# Altium footprint library VOT8121_SMD-4.PcbLib: 1 footprints
Each footprint in its own frame and in the unit in brackets; x right, y up, seen from the top. Pads: shape width x height; smd on the part's side, far side on the other; paste and mask are expansions set on the pad; w line width, h text height; cw(c..) or ccw(c..) is an arc to the next point about the centre after c.
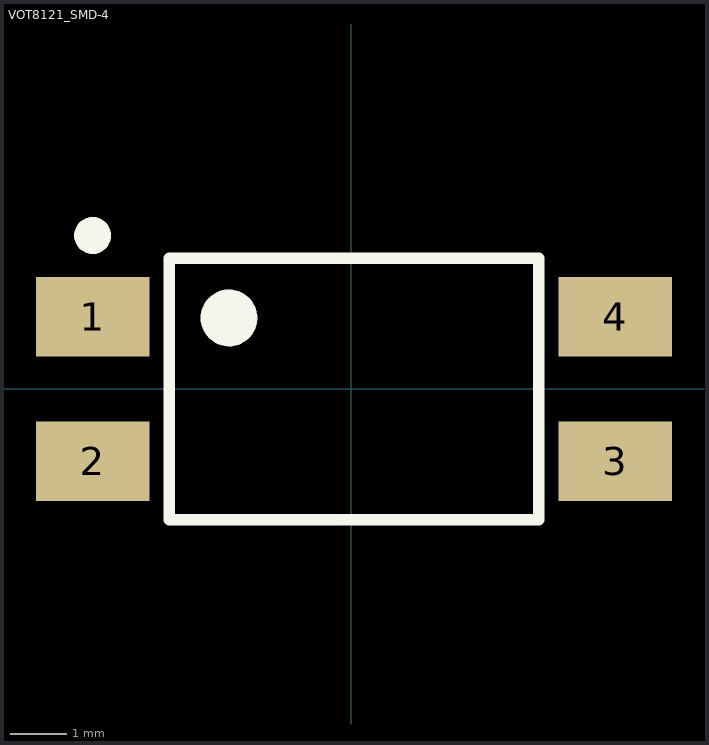
[diagram p0: the footprint, top view; thin cyan lines are the x and y axes]

## VOT8121_SMD-4 [mm] "Vishay Semi VOT8121 SMD-4 footprint"
pads (4):
  rect 2x1.4 smd: 1(-4.55,1.27) 2(-4.55,-1.27) 3(4.65,-1.27) 4(4.65,1.27)
Top Overlay:
  circle w0.4: c-4.55,2.7 r0.125
  circle w0.5: c-2.15,1.25 r0.25
  lines w0.2: -3.2,-2.3 -3.2,2.3 3.3,2.3 3.3,-2.3 -3.2,-2.3
3D body: height 3.85, standoff 0, extent -3.2,-2.3 3.3,2.3